# EAGLE library part SENS_MEMS_MIC_SPH0645LM4H-B (library fab_new)
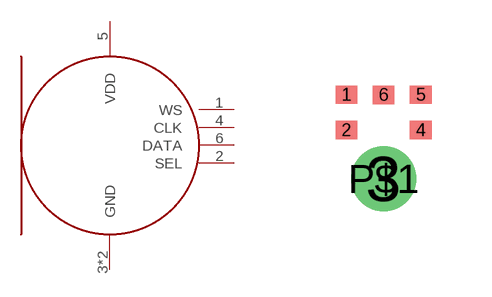
[diagram p12: symbol with the pads of MIC_BOTTOM_PORT; footprint MIC_BOTTOM_PORT]

Designator prefix -

## SENS_MEMS_MIC_SPH0645LM4H-BI2S  [MIC_BOTTOM_PORT]
1  WS
2  SEL
3  GND
4  CLK
5  VDD
6  DATA
P$1  GND

## Footprint MIC_BOTTOM_PORT (pad centres in mm)
Knowles SPH0645LM4H-B I2S Output Digital Microphone, 18-bit precision
smd 0.54 x 0.46: 1 -0.929,2.106; 2 -0.931,1.221; 4 0.931,1.22; 5 0.93,2.105; 6 0,2.102
smd 1.624 x 1.624: 3 0,0
drill 1.024 pad 1.624: P$1 0,0